# Altium schematic symbol library DebuggingLib.SchLib: 1 symbol
Pins are listed as number, name and electrical type; pins without a type are passive.

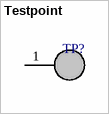
[diagram p0: symbol Testpoint]

## Testpoint
designator TP?
footprint Testpoint Footprint
pins: 1